# Altium footprint library ICL_test_parts.PcbLib: 9 footprints
Each footprint in its own frame and in the unit in brackets; x right, y up, seen from the top. Pads: shape width x height; smd on the part's side, far side on the other; paste and mask are expansions set on the pad; w line width, h text height; cw(c..) or ccw(c..) is an arc to the next point about the centre after c.
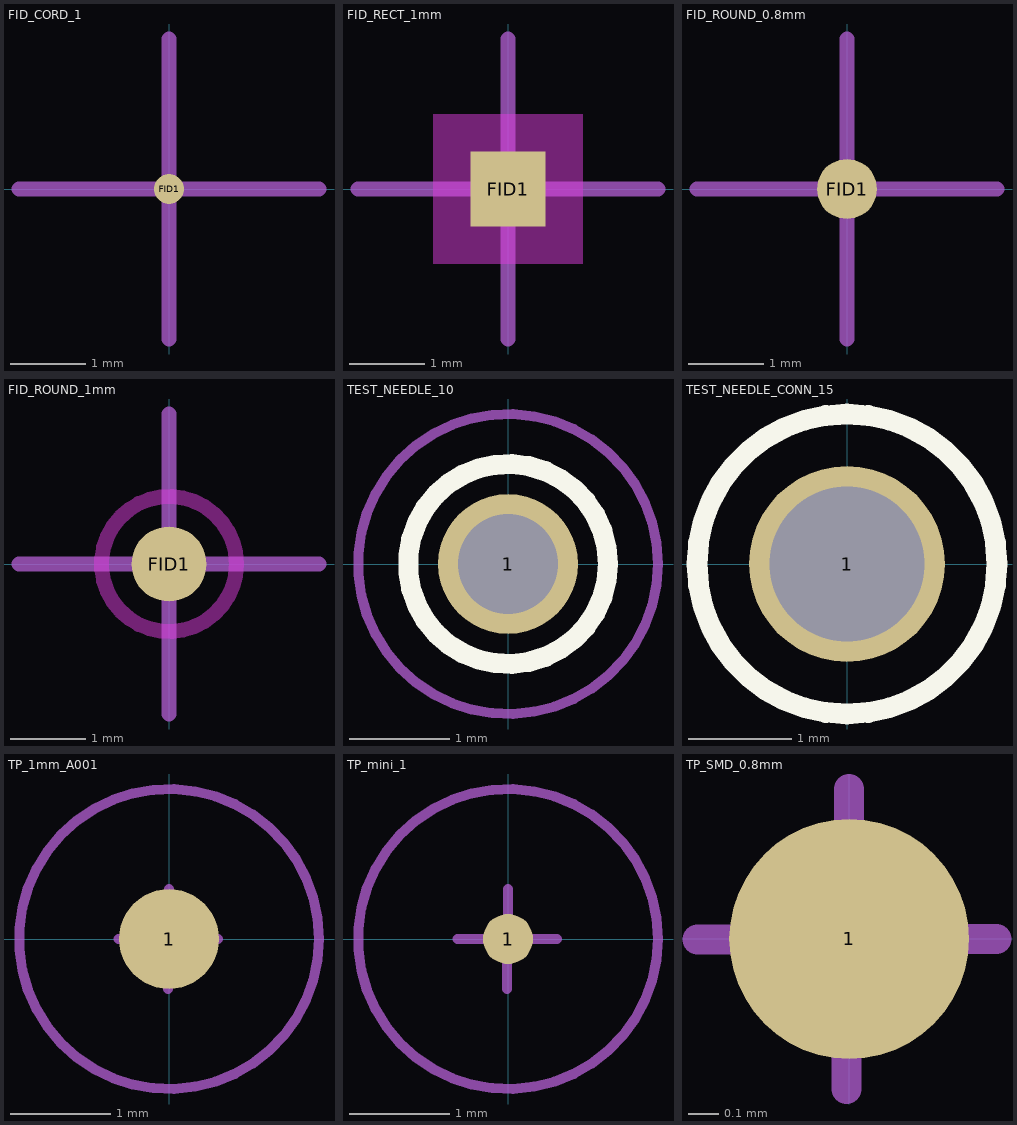
[diagram p0: the footprints below, top view; thin cyan lines are the x and y axes]

## FID_CORD_1 [mm] "Fiducial for cordinate"
pads (1):
  round 0.4 smd paste-0.4 mask+0.2: FID1(0,0)
Top M15-16_SORG:
  lines w0.2: -2,0 0,0 ; 0,-2 0,0 ; 0,2 0,0 ; 2,0 0,0
3D body: height 0.05, standoff 0, extent -0.202,-0.2 0.197,0.2

## FID_RECT_1mm [mm] "Fiducial rect 1mm"
pads (1):
  rect 1x1 smd paste-1 mask+0.5: FID1(0,0)
Top Layer keep-out:
  rectangle: -1,-1 1,1
Top M15-16_SORG:
  lines w0.2: -2,0 0,0 ; 0,-2 0,0 ; 0,2 0,0 ; 2,0 0,0
3D body: height 0.05, standoff 0, extent -0.499,-0.499 0.497,0.499

## FID_ROUND_0.8mm [mm] "Fiducial round 0.8mm"
pads (1):
  round 0.8 smd paste-0.8 mask+0.5: FID1(0,0)
Top M15-16_SORG:
  lines w0.2: -2,0 0,0 ; 0,-2 0,0 ; 0,2 0,0 ; 2,0 0,0
3D body: height 0.05, standoff 0, extent -0.4,-0.399 0.397,0.399

## FID_ROUND_1mm [mm] "Fiducial round 1mm"
pads (1):
  round 1 smd paste-1 mask+0.5: FID1(0,0)
Top Layer keep-out:
  circle w0.2: c0,0 r0.9
Top M15-16_SORG:
  lines w0.2: -2,0 0,0 ; 0,-2 0,0 ; 0,2 0,0 ; 2,0 0,0
3D body: height 0.05, standoff 0, extent -0.5,-0.5 0.5,0.5

## TEST_NEEDLE_10 [mm] "gmoazdo igły 1,5mm"
pads (1):
  round 1.4 hole 1 mask+0.102: 1(0,0)
Top Overlay:
  circle w0.2: c0,0 r1
Top M15-16_SORG:
  circle w0.1: c0,0 r1.5

## TEST_NEEDLE_CONN_15 [mm] "gmoazdo igły 1,5mm"
pads (1):
  round 1.9 hole 1.5 mask+0.102: 1(0,0)
Top Overlay:
  circle w0.2: c0,0 r1.456

## TP_1mm_A001 [mm] "1mm"
pads (1):
  round 1 smd paste-0.6: 1(0,0)
Top M15-16_SORG:
  circle w0.1: c0,0 r1.5
  lines w0.1: -0.506,-0.002 -0.006,-0.002 ; -0.009,-0.5 -0.009,0 0.491,0 ; 0,0 0,0.5
3D body: height 1, standoff 0, extent -0.1,-0.1 0.099,0.1

## TP_mini_1 [mm] "0.2mm"
pads (1):
  round 0.5 smd paste-0.26 mask+0: 1(0,0)
Top M15-16_SORG:
  circle w0.1: c0,0 r1.5
  lines w0.1: -0.506,-0.002 -0.006,-0.002 ; -0.009,-0.5 -0.009,0 0.491,0 ; 0,0 0,0.5
3D body: height 1, standoff 0, extent -0.1,-0.1 0.099,0.1

## TP_SMD_0.8mm [mm] "0.8mm"
pads (1):
  round 0.8 smd paste-0.6: 1(0,0)
Top M15-16_SORG:
  lines w0.1: -0.506,-0.002 -0.006,-0.002 ; -0.009,-0.5 -0.009,0 0.491,0 ; 0,0 0,0.5
3D body: height 0.1, standoff 0, extent -0.401,-0.4 0.399,0.4